# Altium schematic symbol library CC0603JRNPO9BN501.SchLib: 1 symbol
Pins are listed as number, name and electrical type; pins without a type are passive.

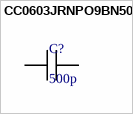
[diagram p0: symbol CC0603JRNPO9BN501]

## CC0603JRNPO9BN501
designator C?, comment 500p
CC0603JRNPO9BN501 500pF 5%, 50 VDC 0603
footprint CAPC17595_87N_KEM
pins: 1, 2